# Altium schematic symbol library SPX3819M5-L-3-3.SchLib: 1 symbol
Pins are listed as number, name and electrical type; pins without a type are passive.

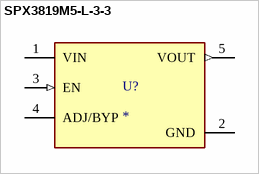
[diagram p0: symbol SPX3819M5-L-3-3]

## SPX3819M5-L-3-3
designator U?
Linear Voltage Regulator IC Positive Fixed 1 Output 500mA SOT-23-5; MF: MaxLinear, Inc.; MP: SPX3819M5-L-3-3/TR; SnapEDA_Link: https://www.snapeda.com/parts/SPX3819M5-L-3-3/TR/MaxLinear%252C+Inc./view-part/?ref=snap; Package: SOT-23-5 Exar; Value: *; Check_prices: https://www.snapeda.com/parts/SPX3819M5-L-3-3/TR/MaxLinear%252C+Inc./view-part/?ref=eda
footprint SOT95P280X145-5N
pins: 1 VIN (power), 2 GND, 3 EN (in), 4 ADJ/BYP, 5 VOUT (out)